# Altium schematic symbol library connectors_micromatch.SchLib: 9 symbols
Pins are listed as number, name and electrical type; pins without a type are passive.

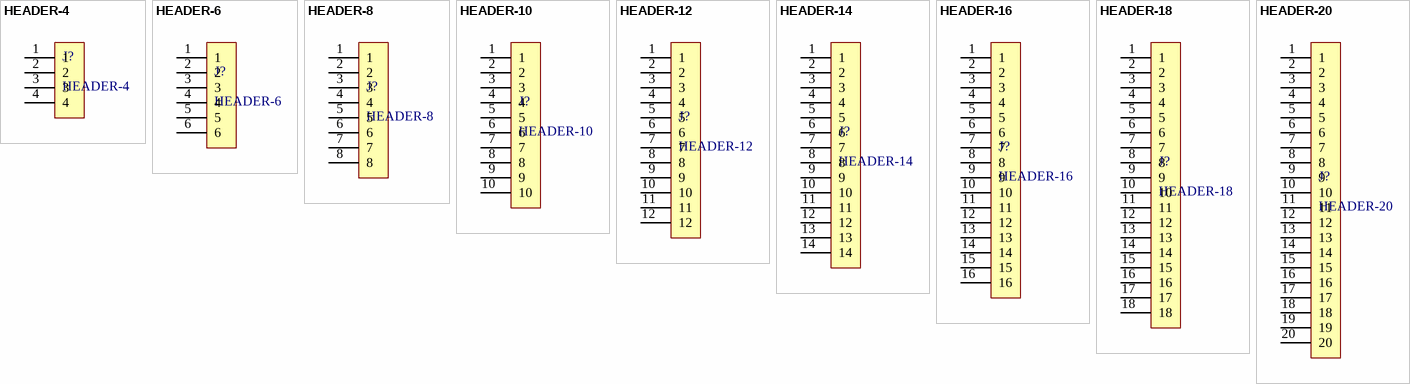
[diagram p0: symbols HEADER-4 to HEADER-20]

## HEADER-4
designator J?
footprint MICRO-MATCH-FOB-04
footprint MICRO-MATCH-FOB-SMD-04
footprint MICRO-MATCH-MOB-04
footprint MICRO-MATCH-FOB-SIDE-04
pins: 1, 2, 3, 4

## HEADER-6
designator J?
footprint MICRO-MATCH-FOB-06
footprint MICRO-MATCH-FOB-SMD-06
footprint MICRO-MATCH-MOB-06
footprint MICRO-MATCH-FOB-SIDE-06
pins: 1, 2, 3, 4, 5, 6

## HEADER-8
designator J?
footprint MICRO-MATCH-FOB-08
footprint MICRO-MATCH-FOB-SMD-08
footprint MICRO-MATCH-MOB-08
footprint MICRO-MATCH-FOB-SIDE-08
pins: 1, 2, 3, 4, 5, 6, 7, 8

## HEADER-10
designator J?
footprint MICRO-MATCH-FOB-10
footprint MICRO-MATCH-FOB-SMD-10
footprint MICRO-MATCH-MOB-10
footprint MICRO-MATCH-FOB-SIDE-10
pins: 1, 2, 3, 4, 5, 6, 7, 8, 9, 10

## HEADER-12
designator J?
footprint MICRO-MATCH-FOB-12
footprint MICRO-MATCH-FOB-SMD-12
footprint MICRO-MATCH-MOB-12
footprint MICRO-MATCH-FOB-SIDE-12
pins: 1, 2, 3, 4, 5, 6, 7, 8, 9, 10, 11, 12

## HEADER-14
designator J?
footprint MICRO-MATCH-FOB-14
footprint MICRO-MATCH-FOB-SMD-14
footprint MICRO-MATCH-MOB-14
footprint MICRO-MATCH-FOB-SIDE-14
pins: 1, 2, 3, 4, 5, 6, 7, 8, 9, 10, 11, 12, 13, 14

## HEADER-16
designator J?
footprint MICRO-MATCH-FOB-16
footprint MICRO-MATCH-FOB-SMD-16
footprint MICRO-MATCH-MOB-16
footprint MICRO-MATCH-FOB-SIDE-16
pins: 1, 2, 3, 4, 5, 6, 7, 8, 9, 10, 11, 12, 13, 14, 15, 16

## HEADER-18
designator J?
footprint MICRO-MATCH-FOB-18
footprint MICRO-MATCH-FOB-SMD-18
footprint MICRO-MATCH-MOB-18
footprint MICRO-MATCH-FOB-SIDE-18
pins: 1, 2, 3, 4, 5, 6, 7, 8, 9, 10, 11, 12, 13, 14, 15, 16, 17, 18

## HEADER-20
designator J?
footprint MICRO-MATCH-FOB-20
footprint MICRO-MATCH-FOB-SMD-20
footprint MICRO-MATCH-MOB-20
footprint MICRO-MATCH-FOB-SIDE-20
pins: 1, 2, 3, 4, 5, 6, 7, 8, 9, 10, 11, 12, 13, 14, 15, 16, 17, 18, 19, 20